# Altium integrated library Miscellaneous Connectors.IntLib: 22 symbols
Pins are listed as number, name and electrical type; pins without a type are passive.

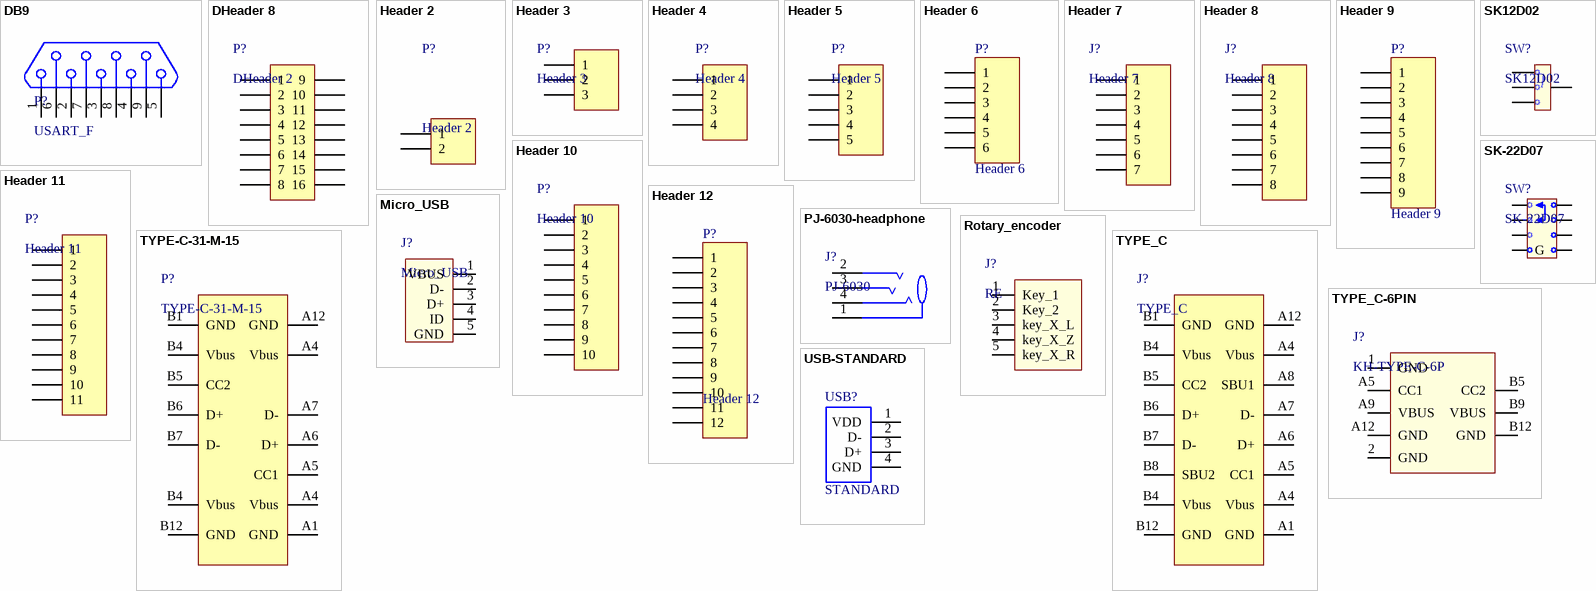
[diagram p0: symbols DB9 to USB-STANDARD]

## DB9
designator P?, comment USART_F
footprint DB9SLW
pins: 1, 2, 3, 4, 5, 6, 7, 8, 9

## DHeader 8
designator P?, comment DHeader 2
footprint D1001-8
pins: 1, 2, 3, 4, 5, 6, 7, 8, 9, 10, 11, 12, 13, 14, 15, 16

## Header 2
designator P?
footprint Header 2 2.54
footprint 1001-2
footprint SW3dPS-rapc722
footprint XH2.54-2P-弯针
footprint Header 2 2.0
footprint Header 2 2.0-直针
footprint 1001-2-2.0
pins: 1, 2

## Header 3
designator P?
footprint 1001-3
footprint XH2.54-3P-弯针
pins: 1, 2, 3

## Header 4
designator P?
footprint Header 4 2.54
footprint 1001-4
footprint Header 4 2.0
footprint Header 4 2.0-弯针
pins: 1, 2, 3, 4

## Header 5
designator P?
footprint Header 5 2.54
footprint 1001-5
footprint Header 5 2.0
pins: 1, 2, 3, 4, 5

## Header 6
designator P?
LatestRevisionDate: 17-Jul-2002; LatestRevisionNote: Re-released for DXP Platform.; Publisher: Altium Limited
footprint Header 6 2.54
footprint 1001-6
pins: 1, 2, 3, 4, 5, 6

## Header 7
designator J?
footprint 1001-7
pins: 1, 2, 3, 4, 5, 6, 7

## Header 8
designator J?
footprint 1001-8
pins: 1, 2, 3, 4, 5, 6, 7, 8

## Header 9
designator P?
LatestRevisionDate: 17-Jul-2002; LatestRevisionNote: Re-released for DXP Platform.; Publisher: Altium Limited
footprint Header 9 2.54
footprint 1001-9
pins: 1, 2, 3, 4, 5, 6, 7, 8, 9

## Header 10
designator P?
footprint Header 10 2.0
pins: 1, 2, 3, 4, 5, 6, 7, 8, 9, 10

## Header 11
designator P?
footprint 1001-11
pins: 1, 2, 3, 4, 5, 6, 7, 8, 9, 10, 11

## Header 12
designator P?
LatestRevisionDate: 17-Jul-2002; LatestRevisionNote: Re-released for DXP Platform.; Publisher: Altium Limited
footprint Header 12 2.54
footprint 1001-12
pins: 1, 2, 3, 4, 5, 6, 7, 8, 9, 10, 11, 12

## Micro_USB
designator J?
footprint MicroUSB-5PIN
footprint MICRO 180°ZB
pins: 1 VBUS, 2 D-, 3 D+, 4 ID, 5 GND

## PJ-6030-headphone
designator J?, comment PJ-6030
footprint PJ-6030-headphone
pins: 1, 2, 3, 4

## Rotary_encoder
designator J?, comment RE
footprint Rotary_encoder
footprint Rotary_encoder-贴片式
pins: 1 Key_1, 2 Key_2, 3 key_X_L, 4 key_X_Z, 5 key_X_R

## SK12D02
designator SW?
footprint SK-12F14_G7
footprint SK-12F14_G7_插件
pins: 1, 2, 3, 4

## SK-22D07
designator SW?
footprint SK-22D07-VG4
pins: 1, 2, 3, 4, 5, 6, 7 G, 8

## TYPE-C-31-M-15
designator P?
footprint USBC-TH_TYPE-C-31-M-15
pins: A1 GND, A4 Vbus, A4 Vbus, A5 CC1, A6 D+, A7 D-, A12 GND, B1 GND, B4 Vbus, B4 Vbus, B5 CC2, B6 D+, B7 D-, B12 GND

## TYPE_C
designator J?
footprint USBC
footprint TYPE-C母座立贴
pins: A1 GND, A4 Vbus, A4 Vbus, A5 CC1, A6 D+, A7 D-, A8 SBU1, A12 GND, B1 GND, B4 Vbus, B4 Vbus, B5 CC2, B6 D+, B7 D-, B8 SBU2, B12 GND

## TYPE_C-6PIN
designator J?, comment KH-TYPE-C-6P
footprint SMD-KH-TYPE-C-6P
footprint USB-C-SMD_TYPE-C-6P-LT6.8-073
pins: 1 GND, 2 GND, A5 CC1, A9 VBUS, A12 GND, B5 CC2, B9 VBUS, B12 GND

## USB-STANDARD
designator USB?, comment STANDARD
footprint USB-板上型，前叉后贴
footprint USB-贴片 (USB2.0)
footprint U-A-24DD-Y-2
footprint U-A-24DD-Y-2-Orange
pins: 1 VDD, 2 D-, 3 D+, 4 GND